# Altium footprint library Discrete_Passive.PcbLib: 311 footprints (part 16 of 20)
Each footprint in its own frame and in the unit in brackets; x right, y up, seen from the top. Pads: shape width x height; smd on the part's side, far side on the other; paste and mask are expansions set on the pad; w line width, h text height; cw(c..) or ccw(c..) is an arc to the next point about the centre after c.
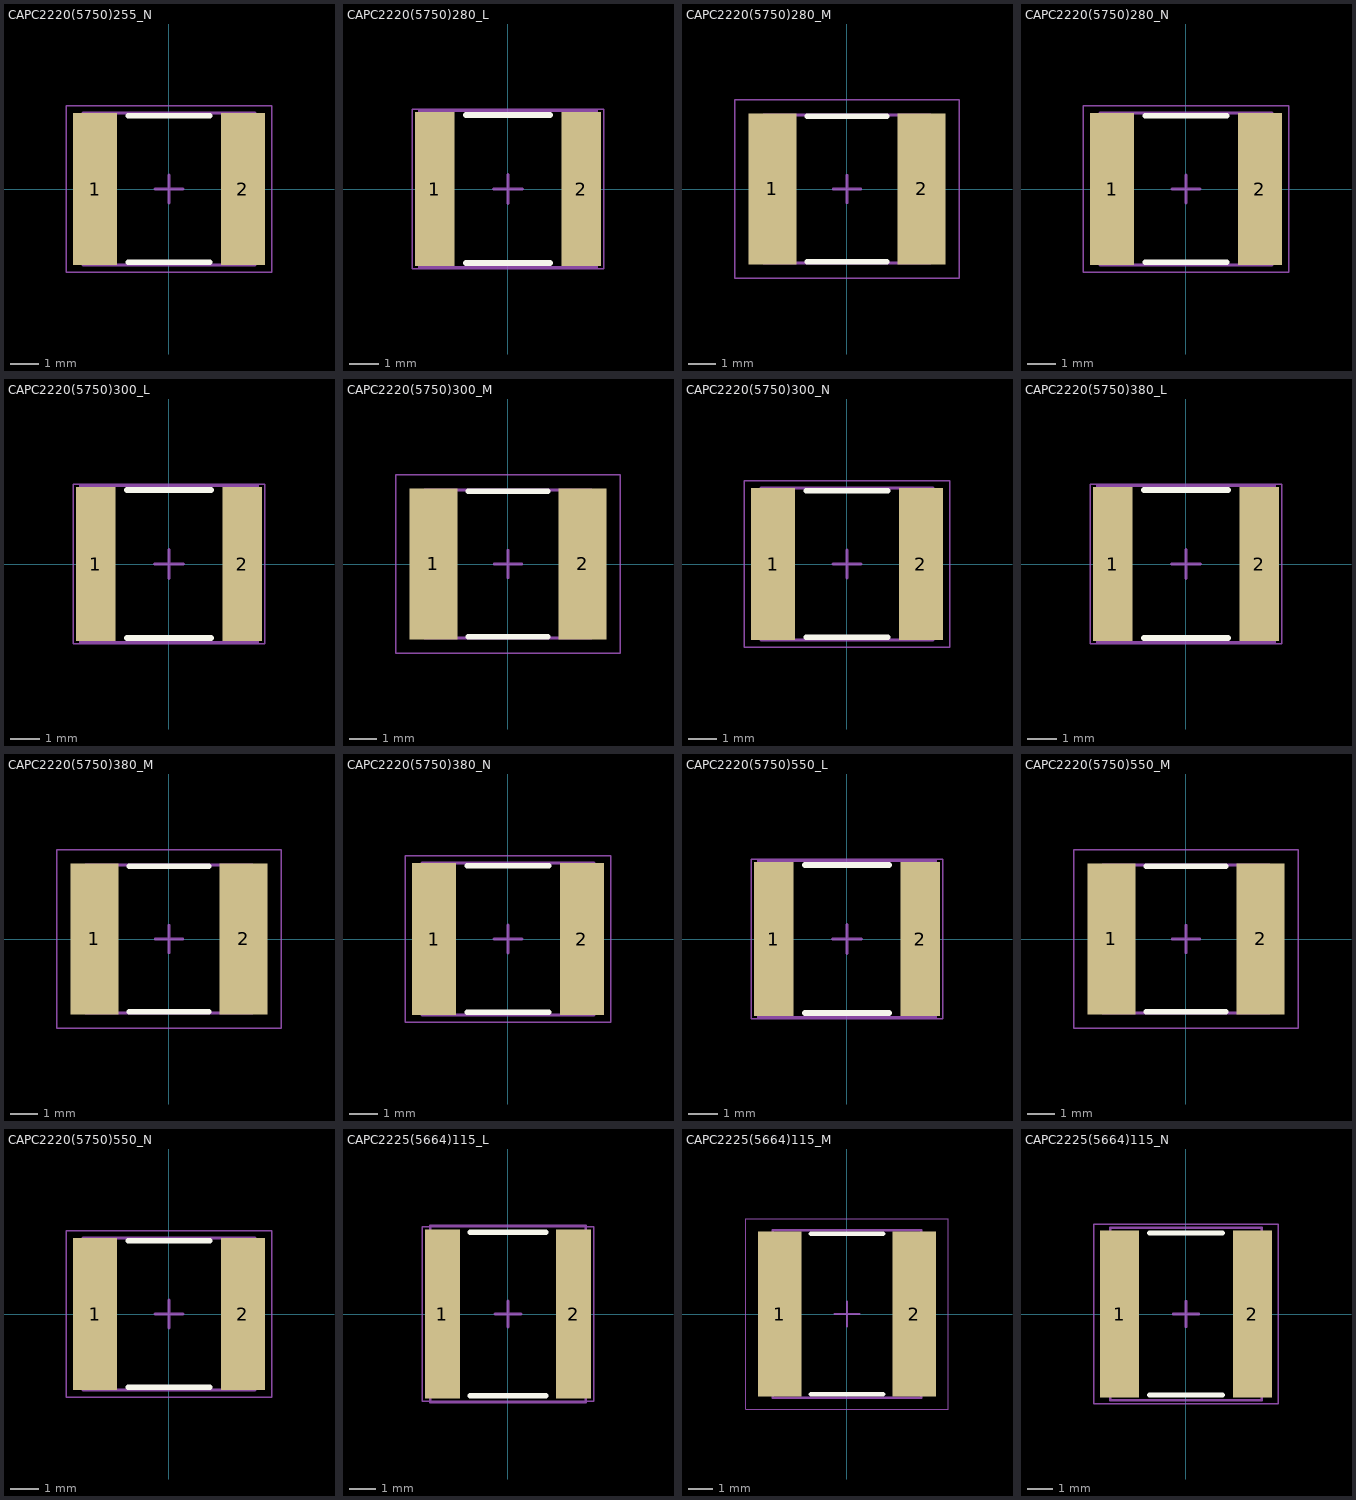
[diagram p15: the footprints below, top view; thin cyan lines are the x and y axes]

## CAPC2220(5750)255_N [mm] "Chip Capacitor, Body 5.7x5.0mm, Height 2.55mm, IPC Medium Density"
height 2.55
pads (2):
  rect 1.55x5.4 smd: 1(-2.625,0) 2(2.625,0)
Top Overlay:
  lines w0.2: -1.45,-2.6 1.45,-2.6 ; -1.45,2.6 1.45,2.6
Mechanical 13:
  lines w0.1: -3.05,-2.7 3.05,-2.7 3.05,2.7 -3.05,2.7 -3.05,-2.7
Mechanical 15:
  lines w0.05: -3.65,-2.95 3.65,-2.95 3.65,2.95 -3.65,2.95 -3.65,-2.95
  lines w0.1: -0.5,0 0.5,0 ; 0,-0.5 0,0.5
3D body: height 2.55, standoff 0, extent 2.45,-2.7 3.05,2.7
3D body: height 2.55, standoff 0, extent -3.05,-2.7 -2.45,2.7
3D body: height 2.55, standoff 0, extent -2.45,-2.7 2.45,2.7

## CAPC2220(5750)280_L [mm] "Chip Capacitor, Body 5.7x5.0mm, Height 2.8mm, IPC High Density"
height 2.8
pads (2):
  rect 1.35x5.3 smd: 1(-2.525,0) 2(2.525,0)
Top Overlay:
  lines w0.2: -1.45,-2.55 1.45,-2.55 ; -1.45,2.55 1.45,2.55
Mechanical 13:
  lines w0.1: -3.05,-2.7 3.05,-2.7 3.05,2.7 -3.05,2.7 -3.05,-2.7
Mechanical 15:
  lines w0.05: -3.3,-2.75 3.3,-2.75 3.3,2.75 -3.3,2.75 -3.3,-2.75
  lines w0.1: -0.5,0 0.5,0 ; 0,-0.5 0,0.5
3D body: height 2.8, standoff 0, extent 2.45,-2.7 3.05,2.7
3D body: height 2.8, standoff 0, extent -3.05,-2.7 -2.45,2.7
3D body: height 2.8, standoff 0, extent -2.45,-2.7 2.45,2.7

## CAPC2220(5750)280_M [mm] "Chip Capacitor, Body 5.7x5.0mm, Height 2.8mm, IPC Low Density"
height 2.8
pads (2):
  rect 1.75x5.5 smd: 1(-2.725,0) 2(2.725,0)
Top Overlay:
  lines w0.2: -1.45,-2.65 1.45,-2.65 ; -1.45,2.65 1.45,2.65
Mechanical 13:
  lines w0.1: -3.05,-2.7 3.05,-2.7 3.05,2.7 -3.05,2.7 -3.05,-2.7
Mechanical 15:
  lines w0.05: -4.1,-3.25 4.1,-3.25 4.1,3.25 -4.1,3.25 -4.1,-3.25
  lines w0.1: -0.5,0 0.5,0 ; 0,-0.5 0,0.5
3D body: height 2.8, standoff 0, extent 2.45,-2.7 3.05,2.7
3D body: height 2.8, standoff 0, extent -3.05,-2.7 -2.45,2.7
3D body: height 2.8, standoff 0, extent -2.45,-2.7 2.45,2.7

## CAPC2220(5750)280_N [mm] "Chip Capacitor, Body 5.7x5.0mm, Height 2.8mm, IPC Medium Density"
height 2.8
pads (2):
  rect 1.55x5.4 smd: 1(-2.625,0) 2(2.625,0)
Top Overlay:
  lines w0.2: -1.45,-2.6 1.45,-2.6 ; -1.45,2.6 1.45,2.6
Mechanical 13:
  lines w0.1: -3.05,-2.7 3.05,-2.7 3.05,2.7 -3.05,2.7 -3.05,-2.7
Mechanical 15:
  lines w0.05: -3.65,-2.95 3.65,-2.95 3.65,2.95 -3.65,2.95 -3.65,-2.95
  lines w0.1: -0.5,0 0.5,0 ; 0,-0.5 0,0.5
3D body: height 2.8, standoff 0, extent 2.45,-2.7 3.05,2.7
3D body: height 2.8, standoff 0, extent -3.05,-2.7 -2.45,2.7
3D body: height 2.8, standoff 0, extent -2.45,-2.7 2.45,2.7

## CAPC2220(5750)300_L [mm] "Chip Capacitor, Body 5.7x5.0mm, Height 3.0mm, IPC High Density"
height 3
pads (2):
  rect 1.35x5.3 smd: 1(-2.525,0) 2(2.525,0)
Top Overlay:
  lines w0.2: -1.45,-2.55 1.45,-2.55 ; -1.45,2.55 1.45,2.55
Mechanical 13:
  lines w0.1: -3.05,-2.7 3.05,-2.7 3.05,2.7 -3.05,2.7 -3.05,-2.7
Mechanical 15:
  lines w0.05: -3.3,-2.75 3.3,-2.75 3.3,2.75 -3.3,2.75 -3.3,-2.75
  lines w0.1: -0.5,0 0.5,0 ; 0,-0.5 0,0.5
3D body: height 3, standoff 0, extent 2.45,-2.7 3.05,2.7
3D body: height 3, standoff 0, extent -3.05,-2.7 -2.45,2.7
3D body: height 3, standoff 0, extent -2.45,-2.7 2.45,2.7

## CAPC2220(5750)300_M [mm] "Chip Capacitor, Body 5.7x5.0mm, Height 3.0mm, IPC Low Density"
height 3
pads (2):
  rect 1.75x5.5 smd: 1(-2.725,0) 2(2.725,0)
Top Overlay:
  lines w0.2: -1.45,-2.65 1.45,-2.65 ; -1.45,2.65 1.45,2.65
Mechanical 13:
  lines w0.1: -3.05,-2.7 3.05,-2.7 3.05,2.7 -3.05,2.7 -3.05,-2.7
Mechanical 15:
  lines w0.05: -4.1,-3.25 4.1,-3.25 4.1,3.25 -4.1,3.25 -4.1,-3.25
  lines w0.1: -0.5,0 0.5,0 ; 0,-0.5 0,0.5
3D body: height 3, standoff 0, extent 2.45,-2.7 3.05,2.7
3D body: height 3, standoff 0, extent -3.05,-2.7 -2.45,2.7
3D body: height 3, standoff 0, extent -2.45,-2.7 2.45,2.7

## CAPC2220(5750)300_N [mm] "Chip Capacitor, Body 5.7x5.0mm, Height 3.0mm, IPC Medium Density"
height 3
pads (2):
  rect 1.55x5.4 smd: 1(-2.625,0) 2(2.625,0)
Top Overlay:
  lines w0.2: -1.45,-2.6 1.45,-2.6 ; -1.45,2.6 1.45,2.6
Mechanical 13:
  lines w0.1: -3.05,-2.7 3.05,-2.7 3.05,2.7 -3.05,2.7 -3.05,-2.7
Mechanical 15:
  lines w0.05: -3.65,-2.95 3.65,-2.95 3.65,2.95 -3.65,2.95 -3.65,-2.95
  lines w0.1: -0.5,0 0.5,0 ; 0,-0.5 0,0.5
3D body: height 3, standoff 0, extent 2.45,-2.7 3.05,2.7
3D body: height 3, standoff 0, extent -3.05,-2.7 -2.45,2.7
3D body: height 3, standoff 0, extent -2.45,-2.7 2.45,2.7

## CAPC2220(5750)380_L [mm] "Chip Capacitor, Body 5.7x5.0mm, Height 3.8mm, IPC High Density"
height 3.8
pads (2):
  rect 1.35x5.3 smd: 1(-2.525,0) 2(2.525,0)
Top Overlay:
  lines w0.2: -1.45,-2.55 1.45,-2.55 ; -1.45,2.55 1.45,2.55
Mechanical 13:
  lines w0.1: -3.05,-2.7 3.05,-2.7 3.05,2.7 -3.05,2.7 -3.05,-2.7
Mechanical 15:
  lines w0.05: -3.3,-2.75 3.3,-2.75 3.3,2.75 -3.3,2.75 -3.3,-2.75
  lines w0.1: -0.5,0 0.5,0 ; 0,-0.5 0,0.5
3D body: height 3.8, standoff 0, extent 2.45,-2.7 3.05,2.7
3D body: height 3.8, standoff 0, extent -3.05,-2.7 -2.45,2.7
3D body: height 3.8, standoff 0, extent -2.45,-2.7 2.45,2.7

## CAPC2220(5750)380_M [mm] "Chip Capacitor, Body 5.7x5.0mm, Height 3.8mm, IPC Low Density"
height 3.8
pads (2):
  rect 1.75x5.5 smd: 1(-2.725,0) 2(2.725,0)
Top Overlay:
  lines w0.2: -1.45,-2.65 1.45,-2.65 ; -1.45,2.65 1.45,2.65
Mechanical 13:
  lines w0.1: -3.05,-2.7 3.05,-2.7 3.05,2.7 -3.05,2.7 -3.05,-2.7
Mechanical 15:
  lines w0.05: -4.1,-3.25 4.1,-3.25 4.1,3.25 -4.1,3.25 -4.1,-3.25
  lines w0.1: -0.5,0 0.5,0 ; 0,-0.5 0,0.5
3D body: height 3.8, standoff 0, extent 2.45,-2.7 3.05,2.7
3D body: height 3.8, standoff 0, extent -3.05,-2.7 -2.45,2.7
3D body: height 3.8, standoff 0, extent -2.45,-2.7 2.45,2.7

## CAPC2220(5750)380_N [mm] "Chip Capacitor, Body 5.7x5.0mm, Height 3.8mm, IPC Medium Density"
height 3.8
pads (2):
  rect 1.55x5.4 smd: 1(-2.625,0) 2(2.625,0)
Top Overlay:
  lines w0.2: -1.45,-2.6 1.45,-2.6 ; -1.45,2.6 1.45,2.6
Mechanical 13:
  lines w0.1: -3.05,-2.7 3.05,-2.7 3.05,2.7 -3.05,2.7 -3.05,-2.7
Mechanical 15:
  lines w0.05: -3.65,-2.95 3.65,-2.95 3.65,2.95 -3.65,2.95 -3.65,-2.95
  lines w0.1: -0.5,0 0.5,0 ; 0,-0.5 0,0.5
3D body: height 3.8, standoff 0, extent 2.45,-2.7 3.05,2.7
3D body: height 3.8, standoff 0, extent -3.05,-2.7 -2.45,2.7
3D body: height 3.8, standoff 0, extent -2.45,-2.7 2.45,2.7

## CAPC2220(5750)550_L [mm] "Chip Capacitor, Body 5.7x5.0mm, Height 5.5mm, IPC High Density"
height 5.5
pads (2):
  rect 1.35x5.3 smd: 1(-2.525,0) 2(2.525,0)
Top Overlay:
  lines w0.2: -1.45,-2.55 1.45,-2.55 ; -1.45,2.55 1.45,2.55
Mechanical 13:
  lines w0.1: -3.05,-2.7 3.05,-2.7 3.05,2.7 -3.05,2.7 -3.05,-2.7
Mechanical 15:
  lines w0.05: -3.3,-2.75 3.3,-2.75 3.3,2.75 -3.3,2.75 -3.3,-2.75
  lines w0.1: -0.5,0 0.5,0 ; 0,-0.5 0,0.5
3D body: height 5.5, standoff 0, extent 2.45,-2.7 3.05,2.7
3D body: height 5.5, standoff 0, extent -3.05,-2.7 -2.45,2.7
3D body: height 5.5, standoff 0, extent -2.45,-2.7 2.45,2.7

## CAPC2220(5750)550_M [mm] "Chip Capacitor, Body 5.7x5.0mm, Height 5.5mm, IPC Low Density"
height 5.5
pads (2):
  rect 1.75x5.5 smd: 1(-2.725,0) 2(2.725,0)
Top Overlay:
  lines w0.2: -1.45,-2.65 1.45,-2.65 ; -1.45,2.65 1.45,2.65
Mechanical 13:
  lines w0.1: -3.05,-2.7 3.05,-2.7 3.05,2.7 -3.05,2.7 -3.05,-2.7
Mechanical 15:
  lines w0.05: -4.1,-3.25 4.1,-3.25 4.1,3.25 -4.1,3.25 -4.1,-3.25
  lines w0.1: -0.5,0 0.5,0 ; 0,-0.5 0,0.5
3D body: height 5.5, standoff 0, extent 2.45,-2.7 3.05,2.7
3D body: height 5.5, standoff 0, extent -3.05,-2.7 -2.45,2.7
3D body: height 5.5, standoff 0, extent -2.45,-2.7 2.45,2.7

## CAPC2220(5750)550_N [mm] "Chip Capacitor, Body 5.7x5.0mm, Height 5.5mm, IPC Medium Density"
height 5.5
pads (2):
  rect 1.55x5.4 smd: 1(-2.625,0) 2(2.625,0)
Top Overlay:
  lines w0.2: -1.45,-2.6 1.45,-2.6 ; -1.45,2.6 1.45,2.6
Mechanical 13:
  lines w0.1: -3.05,-2.7 3.05,-2.7 3.05,2.7 -3.05,2.7 -3.05,-2.7
Mechanical 15:
  lines w0.05: -3.65,-2.95 3.65,-2.95 3.65,2.95 -3.65,2.95 -3.65,-2.95
  lines w0.1: -0.5,0 0.5,0 ; 0,-0.5 0,0.5
3D body: height 5.5, standoff 0, extent 2.45,-2.7 3.05,2.7
3D body: height 5.5, standoff 0, extent -3.05,-2.7 -2.45,2.7
3D body: height 5.5, standoff 0, extent -2.45,-2.7 2.45,2.7

## CAPC2225(5664)115_L [mm] "Chip Capacitor, Body 5.7x6.4mm, Height 1.15mm, IPC High Density"
height 1.15
pads (2):
  rect 1.35x6.5 smd: 1(-2.525,0) 2(2.525,0)
Top Overlay:
  lines w0.2: -1.45,-3.15 1.45,-3.15 ; -1.45,3.15 1.45,3.15
Mechanical 13:
  lines w0.1: -3,-3.4 3,-3.4 3,3.4 -3,3.4 -3,-3.4
Mechanical 15:
  lines w0.05: -3.3,-3.35 3.3,-3.35 3.3,3.35 -3.3,3.35 -3.3,-3.35
  lines w0.1: -0.5,0 0.5,0 ; 0,-0.5 0,0.5
3D body: height 1.15, standoff 0, extent 2.4,-3.4 3,3.4
3D body: height 1.15, standoff 0, extent -3,-3.4 -2.4,3.4
3D body: height 1.15, standoff 0, extent -2.4,-3.4 2.4,3.4

## CAPC2225(5664)115_M [mm] "Chip Capacitor, Body 5.7x6.4mm, Height 1.15mm, IPC Low Density"
height 1.15
pads (2):
  rect 1.75x6.7 smd: 1(-2.725,0) 2(2.725,0)
Top Overlay:
  lines w0.2: -1.45,-3.25 1.45,-3.25 ; -1.45,3.25 1.45,3.25
Mechanical 13:
  lines w0.1: -3,-3.4 3,-3.4 3,3.4 -3,3.4 -3,-3.4
Mechanical 15:
  lines w0.05: -4.1,-3.85 4.1,-3.85 4.1,3.85 -4.1,3.85 -4.1,-3.85
  lines w0.1: -0.5,0 0.5,0 ; 0,-0.5 0,0.5
3D body: height 1.15, standoff 0, extent 2.4,-3.4 3,3.4
3D body: height 1.15, standoff 0, extent -3,-3.4 -2.4,3.4
3D body: height 1.15, standoff 0, extent -2.4,-3.4 2.4,3.4

## CAPC2225(5664)115_N [mm] "Chip Capacitor, Body 5.7x6.4mm, Height 1.15mm, IPC Medium Density"
height 1.15
pads (2):
  rect 1.55x6.6 smd: 1(-2.625,0) 2(2.625,0)
Top Overlay:
  lines w0.2: -1.45,-3.2 1.45,-3.2 ; -1.45,3.2 1.45,3.2
Mechanical 13:
  lines w0.1: -3,-3.4 3,-3.4 3,3.4 -3,3.4 -3,-3.4
Mechanical 15:
  lines w0.05: -3.65,-3.55 3.65,-3.55 3.65,3.55 -3.65,3.55 -3.65,-3.55
  lines w0.1: -0.5,0 0.5,0 ; 0,-0.5 0,0.5
3D body: height 1.15, standoff 0, extent 2.4,-3.4 3,3.4
3D body: height 1.15, standoff 0, extent -3,-3.4 -2.4,3.4
3D body: height 1.15, standoff 0, extent -2.4,-3.4 2.4,3.4